# EAGLE library part SEGMENT_12BAR_BICOLOR (library adafruit_AT4004)
12-Bar Bi-Color LED Segment Displays: Row = Cathode 30.2 x 10.1mm Bi-Color 12 LED Bar Graph, 5.0 x 1.74mm Square LEDs - BL-AR12Z3010
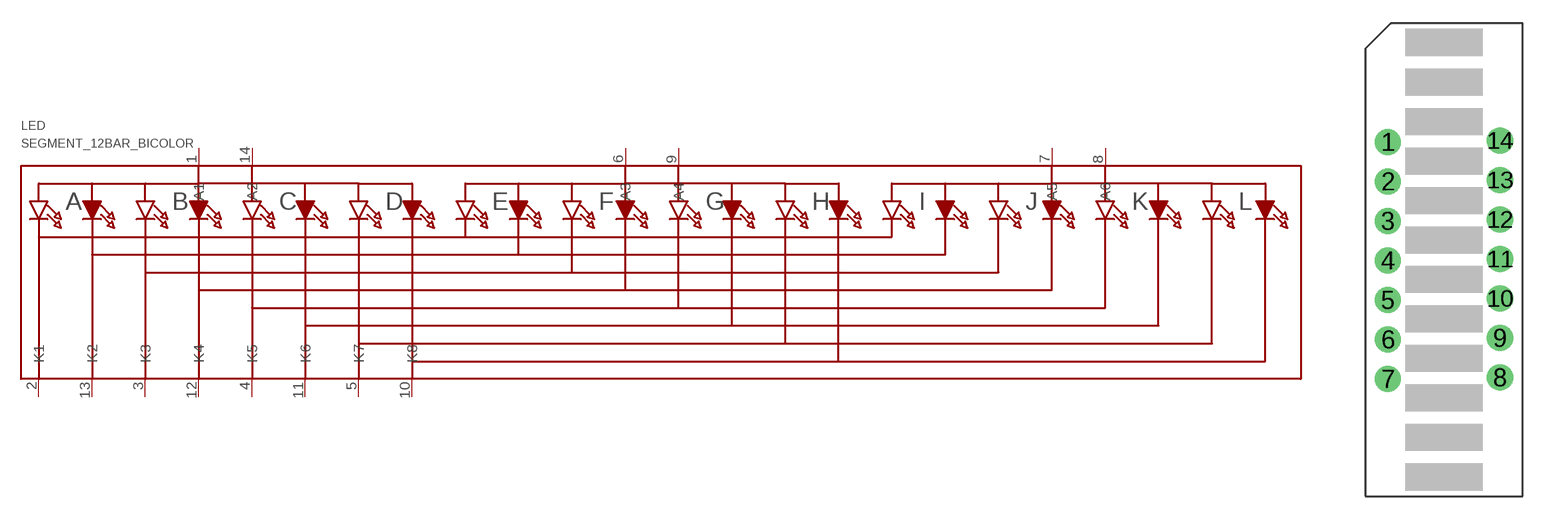
[diagram p71: symbol with the pads of SEGMENT_BICOL_BL-AR12Z3010; footprint SEGMENT_BICOL_BL-AR12Z3010]

Designator prefix LED

## SEGMENT_12BAR_BICOLORAR12Z3010  [SEGMENT_BICOL_BL-AR12Z3010]
1  A1
2  K1
3  K3
4  K5
5  K7
6  A3
7  A5
8  A6
9  A4
10  K8
11  K6
12  K4
13  K2
14  A2

## Footprint SEGMENT_BICOL_BL-AR12Z3010 (pad centres in mm)
Souce: http://www.betlux.com/product/LED_light_bar/BL-AR12B3010xx.PDF
drill 0.8 pad 1.676: 1 -3.6,7.57; 2 -3.6,5.03; 3 -3.6,2.49; 4 -3.6,-0.05; 5 -3.6,-2.59; 6 -3.6,-5.13; 7 -3.6,-7.67; 8 3.6,-7.57; 9 3.6,-5.03; 10 3.6,-2.49; 11 3.6,0.05; 12 3.6,2.59; 13 3.6,5.13; 14 3.6,7.67